# EAGLE library part VHDCI68 (library tw)
Nexys 3 VHDCI 68pin 0.8mm pitch
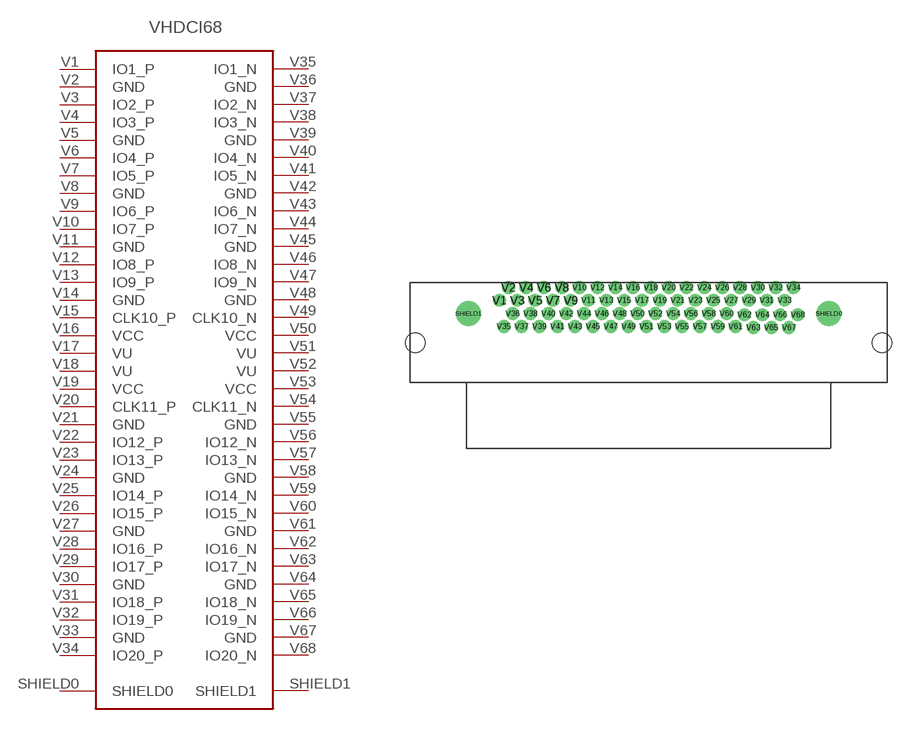
[diagram p0: symbol with the pads of VHDCI68; footprint VHDCI68]

Designator prefix -

## VHDCI68  [VHDCI68]
SHIELD0  SHIELD0
SHIELD1  SHIELD1
V1  IO1_P
V2  GND  pas
V3  IO2_P
V4  IO3_P
V5  GND  pas
V6  IO4_P
V7  IO5_P
V8  GND
V9  IO6_P
V10  IO7_P
V11  GND
V12  IO8_P
V13  IO9_P
V14  GND
V15  CLK10_P
V16  VCC  pwr
V17  VU  pwr
V18  VU  pwr
V19  VCC  pwr
V20  CLK11_P
V21  GND
V22  IO12_P
V23  IO13_P
V24  GND
V25  IO14_P
V26  IO15_P
V27  GND
V28  IO16_P
V29  IO17_P
V30  GND
V31  IO18_P
V32  IO19_P
V33  GND
V34  IO20_P
V35  IO1_N
V36  GND
V37  IO2_N
V38  IO3_N
V39  GND
V40  IO4_N
V41  IO5_N
V42  GND
V43  IO6_N
V44  IO7_N
V45  GND
V46  IO8_N
V47  IO9_N
V48  GND
V49  CLK10_N
V50  VCC  pwr
V51  VU  pwr
V52  VU  pwr
V53  VCC  pwr
V54  CLK11_N
V55  GND
V56  IO12_N
V57  IO13_N
V58  GND
V59  IO14_N
V60  IO15_N
V61  GND
V62  IO16_N
V63  IO17_N
V64  GND
V65  IO18_N
V66  IO19_N
V67  GND
V68  IO20_N

## Footprint VHDCI68 (pad centres in mm)
drill 1.2 pad 2.25: SHIELD0 18.375,-0.4; SHIELD1 -13.975,-0.4
drill 0.65 pad 1: V1 -11.2,0.8; V2 -10.4,1.95; V3 -9.6,0.8; V4 -8.8,1.95; V5 -8,0.8; V6 -7.2,1.95; V7 -6.4,0.8; V8 -5.6,1.95; V9 -4.8,0.8; V10 -4,1.95; V11 -3.2,0.8; V12 -2.4,1.95; V13 -1.6,0.8; V14 -0.8,1.95; V15 0,0.8; V16 0.8,1.95; V17 1.6,0.8; V18 2.4,1.95; V19 3.2,0.8; V20 4,1.95; V21 4.8,0.8; V22 5.6,1.95; V23 6.4,0.8; V24 7.2,1.95; V25 8,0.8; V26 8.8,1.95; V27 9.6,0.8; V28 10.4,1.95; V29 11.2,0.8; V30 12,1.95; V31 12.8,0.8; V32 13.6,1.95; V33 14.4,0.8; V34 15.2,1.95; V35 -10.8,-1.55; V36 -10,-0.4; V37 -9.2,-1.55; V38 -8.4,-0.4; V39 -7.6,-1.55; V40 -6.8,-0.4; V41 -6,-1.55; V42 -5.2,-0.4; V43 -4.4,-1.55; V44 -3.6,-0.4; V45 -2.8,-1.55; V46 -2,-0.4; V47 -1.2,-1.55; V48 -0.4,-0.4; V49 0.4,-1.55; V50 1.2,-0.4; V51 2,-1.55; V52 2.8,-0.4; V53 3.6,-1.55; V54 4.4,-0.4; V55 5.2,-1.55; V56 6,-0.4; V57 6.8,-1.55; V58 7.6,-0.4; V59 8.4,-1.55; V60 9.2,-0.4; V61 10,-1.55; V62 10.8,-0.5; V63 11.6,-1.65; V64 12.4,-0.5; V65 13.2,-1.65; V66 14,-0.5; V67 14.8,-1.65; V68 15.6,-0.5
hole 1.75 at -18.75,-3.025
hole 1.75 at 23.15,-3.025